# Altium footprint library 接插件.PCBLIB: 113 footprints (part 6 of 8)
Each footprint in its own frame and in the unit in brackets; x right, y up, seen from the top. Pads: shape width x height; smd on the part's side, far side on the other; paste and mask are expansions set on the pad; w line width, h text height; cw(c..) or ccw(c..) is an arc to the next point about the centre after c.
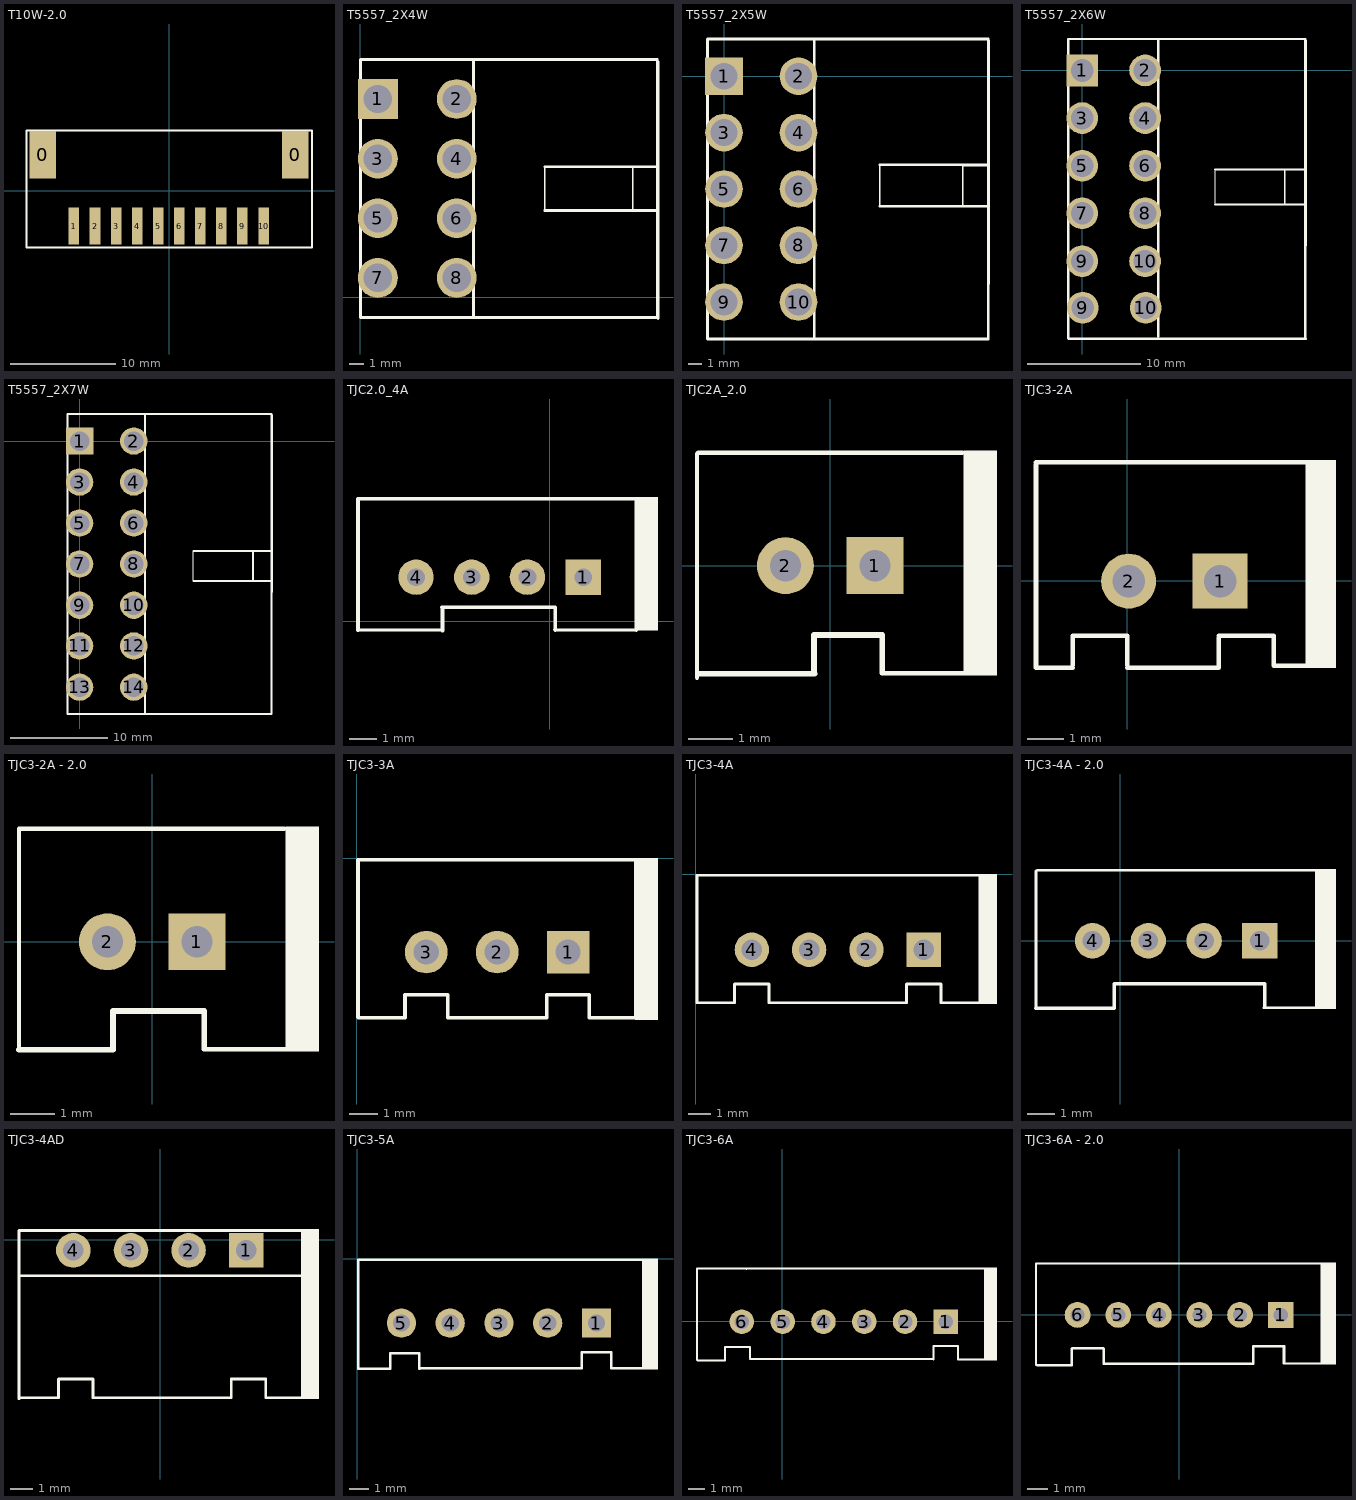
[diagram p5: the footprints below, top view; thin cyan lines are the x and y axes]

## T10W-2.0 [mm]
height 2.54
pads (12):
  rect 2.5x4.5 smd: 0(-11.957,3.375) 0(11.957,3.375)
  rect 1x3.5 smd: 1(-9.007,-3.375) 2(-7.007,-3.375) 3(-5.007,-3.375) 4(-3.025,-3.375) 5(-1.025,-3.375) 6(0.975,-3.375) 7(2.975,-3.369) 8(4.957,-3.369) 9(6.957,-3.369) 10(8.957,-3.369)
TopOverlay:
  lines w0.2: -13.507,-5.4 13.529,-5.4 13.529,5.7 -13.507,5.7 -13.507,-5.4

## T5557_2X4W [mm]
pads (8):
  rect 2.8x2.8 hole 2: 1(1.225,13.975)
  round 2.8 hole 2: 2(6.775,13.975) 3(1.225,9.775) 4(6.775,9.775) 5(1.225,5.575) 6(6.775,5.575) 7(1.225,1.375) 8(6.775,1.375)
TopOverlay:
  lines w0.1: 12.975,6.125 12.975,9.2 ; 20.875,6.125 19.175,6.125 19.175,9.175 20.95,9.175
  lines w0.2: 7.95,-1.35 7.95,16.7 ; 12.975,6.125 20.9,6.125 ; 12.975,9.2 20.95,9.2 ; 20.95,-1.475 20.95,16.625 ; 0,-1.4 20.9,-1.4 20.9,16.75 0,16.75 0,-1.4

## T5557_2X5W [mm]
pads (10):
  rect 2.8x2.8 hole 2: 1(0,0)
  round 2.8 hole 2: 2(5.55,0) 3(0,-4.2) 4(5.55,-4.2) 5(0,-8.4) 6(5.55,-8.4) 7(0,-12.6) 8(5.55,-12.6) 9(0,-16.825) 10(5.55,-16.825)
TopOverlay:
  lines w0.1: 11.6,-9.675 11.6,-6.6 ; 19.5,-9.7 17.8,-9.7 17.8,-6.65 19.575,-6.65 ; 19.5,-9.675 17.8,-9.675 17.8,-6.625 19.575,-6.625
  lines w0.2: -1.225,-19.575 19.675,-19.575 ; 6.725,-19.45 6.725,2.725 ; 11.6,-9.675 19.525,-9.675 ; 11.6,-6.6 19.575,-6.6 ; 19.725,-15.45 19.725,2.65 ; -1.225,-19.55 -1.225,2.775 19.675,2.775 19.675,-19.55 -1.225,-19.55

## T5557_2X6W [mm]
pads (12):
  rect 2.8x2.8 hole 2: 1(0,0)
  round 2.8 hole 2: 2(5.55,0) 3(0,-4.2) 4(5.55,-4.2) 5(0,-8.4) 6(5.55,-8.4) 7(0,-12.6) 8(5.55,-12.6) 9(0,-16.825) 9(0.05,-20.95) 10(5.55,-16.825) 10(5.6,-20.95)
TopOverlay:
  lines w0.1: 11.725,-11.825 11.725,-8.75 ; 19.575,-11.825 17.875,-11.825 17.875,-8.775 19.65,-8.775 ; 19.625,-11.825 17.925,-11.825 17.925,-8.775 19.7,-8.775
  lines w0.2: -1.175,-23.7 19.725,-23.7 ; -1.175,-23.675 19.725,-23.675 ; 6.725,-23.475 6.725,2.725 ; 11.725,-11.825 19.65,-11.825 ; 11.725,-8.75 19.7,-8.75 ; 19.725,-15.45 19.725,2.65 ; -1.225,-23.65 19.675,-23.65 19.675,2.775 -1.225,2.775 -1.225,-23.65

## T5557_2X7W [mm]
pads (14):
  rect 2.8x2.8 hole 2: 1(0,0)
  round 2.8 hole 2: 2(5.55,0) 3(0,-4.2) 4(5.55,-4.2) 5(0,-8.4) 6(5.55,-8.4) 7(0,-12.6) 8(5.55,-12.6) 9(0,-16.825) 10(5.55,-16.825) 11(0,-21) 12(5.55,-21) 13(0,-25.225) 14(5.55,-25.225)
TopOverlay:
  lines w0.1: 11.65,-14.35 11.65,-11.275 ; 19.45,-14.275 17.75,-14.275 17.75,-11.225 19.525,-11.225 ; 19.55,-14.35 17.85,-14.35 17.85,-11.3 19.625,-11.3
  lines w0.2: -1.225,-27.975 19.675,-27.975 ; 6.725,-27.85 6.725,2.725 ; 11.65,-14.35 19.575,-14.35 ; 11.65,-11.275 19.625,-11.275 ; 19.725,-15.45 19.725,2.65 ; -1.225,-27.95 19.675,-27.95 ; -1.225,-27.95 -1.225,2.775 19.675,2.775 19.675,-27.95 ; -1.225,-27.95 19.675,-27.95

## TJC2.0_4A [mm]
pads (4):
  rect 1.27x1.27 hole 0.635: 1(1.2,1.575)
  round 1.27 hole 0.635: 2(-0.8,1.575) 3(-2.8,1.575) 4(-4.8,1.575)
TopOverlay:
  rectangle: 3.075,-0.341 3.889,4.45
  lines w0.1: -6.875,-0.325 -3.85,-0.325 ; 0.175,-0.3 0.2,-0.325 3.1,-0.325
  lines w0.127: -6.884,-0.328 -6.884,4.4 3.125,4.4 ; -3.875,0.498 0.2,0.498 0.2,-0.328 ; -3.85,-0.353 -3.85,0.473 ; 3.116,-0.328 3.116,4.4

## TJC2A_2.0 [mm]
pads (2):
  rect 1.27x1.27 hole 0.7: 1(1,0)
  round 1.27 hole 0.7: 2(-1,0)
TopOverlay:
  rectangle: 2.972,-2.45 3.725,2.575
  lines w0.1: -2.975,-2.5 -2.975,2.5 ; -2.95,2.525 2.95,2.525 ; 1.15,-2.4 3,-2.4
  lines w0.127: -2.95,-2.412 -0.35,-2.412 ; -0.36,-2.373 -0.36,-1.547 1.164,-1.547 1.164,-2.373

## TJC3-2A [mil]
pads (2):
  rect 60x60 hole 35.43: 1(101.27,-0.45)
  round 60 hole 35.43: 2(1.27,-0.45)
TopOverlay:
  rectangle: 195.67,-95.5 228,132
  lines w5: -100,127.44 -100,-95 -60,-95 ; -100,129.47 196.94,129.47 196.94,-92.97 160,-92.97 ; -60,-92.52 -60,-60 0,-60 0,-92.52 ; 0,-95 100,-95 100,-62.48 ; 100,-60 160,-60 160,-92.52

## TJC3-2A - 2.0 [mm]
pads (2):
  rect 1.27x1.27 hole 0.7: 1(1,0)
  round 1.27 hole 0.7: 2(-1,0)
TopOverlay:
  rectangle: 2.972,-2.45 3.725,2.575
  lines w0.1: -2.975,-2.412 -2.975,2.525 2.95,2.525 ; 1.15,-2.4 3,-2.4
  lines w0.127: -2.975,-2.412 -0.875,-2.412 -0.875,-1.547 1.164,-1.547 1.164,-2.373

## TJC3-3A [mil]
pads (3):
  rect 60x60 hole 35.43: 1(298.27,-132.45)
  round 60 hole 35.43: 2(198.27,-132.45) 3(98.28,-132.45)
TopOverlay:
  rectangle: 392.67,-228 425,0
  lines w5: 2,-224.44 2,-2 ; 2.6,-224.97 68.28,-224.97 68.28,-192.45 128.28,-192.45 128.28,-224.97 268.27,-224.97 268.27,-192.45 328.27,-192.45 328.27,-224.97 393.94,-224.97 393.94,-2.52 2.6,-2.52

## TJC3-4A [mil]
pads (4):
  rect 60x60 hole 35.43: 1(398.27,-132)
  round 60 hole 35.43: 2(298.27,-132) 3(198.28,-132) 4(98.28,-132)
TopOverlay:
  rectangle: 493.94,-227 526,0.5
  lines w5: 493.94,-224.52 428.27,-224.52 428.27,-192 368.27,-192 368.27,-224.52 128.28,-224.52 128.28,-192 68.28,-192 68.28,-224.52 2.6,-224.52 2.6,-2.08 493.94,-2.08

## TJC3-4A - 2.0 [mm]
pads (4):
  rect 1.27x1.27 hole 0.7: 1(5,0)
  round 1.27 hole 0.7: 2(3,0) 3(1,0) 4(-1,0)
TopOverlay:
  rectangle: 6.972,-2.45 7.725,2.575
  lines w0.1: -3.025,-2.425 -3.025,2.5 ; -2.975,2.525 6.95,2.525 ; 5.15,-2.4 7,-2.4
  lines w0.127: -3.025,-2.412 -0.225,-2.412 -0.225,-1.547 5.164,-1.547 5.164,-2.373

## TJC3-4AD [mil]
pads (4):
  rect 60x60 hole 35.43: 1(149.26,-17.83)
  round 60 hole 35.43: 2(49.26,-17.83) 3(-50.74,-17.83) 4(-150.74,-17.83)
TopOverlay:
  rectangle: 244.09,-275.59 275.59,18.7
  lines w5: -245.08,-275.59 -245.08,16.73 ; -243.11,-62.01 248.23,-62.01 ; -243.11,16.73 248.23,16.73 ; -242.47,-273.73 -176.8,-273.73 -176.8,-241.21 -116.8,-241.21 -116.8,-273.73 123.2,-273.73 123.2,-241.21 183.2,-241.21 183.2,-273.73 248.87,-273.73

## TJC3-5A [mil]
pads (5):
  rect 60x60 hole 35.43: 1(490.67,-131.92)
  round 60 hole 35.43: 2(390.67,-131.92) 3(290.67,-131.92) 4(190.67,-131.92) 5(90.67,-131.92)
TopOverlay:
  rectangle: 586.34,-227 617,0.5
  lines w5: 128.67,-224.92 127.67,-225.92 127.67,-193.4 67.67,-193.4 67.67,-225.92 2,-225.92 2,-2.33 1.67,-2 95,-2 586.34,-2 586.34,-224.44 520.67,-224.44 520.67,-191.92 460.67,-191.92 460.67,-224.44 220.67,-224.44 129.15,-224.44

## TJC3-6A [mil]
pads (6):
  rect 60x60 hole 35.43: 1(400.67,-0.92)
  round 60 hole 35.43: 2(300.67,-0.92) 3(200.67,-0.92) 4(100.67,-0.92) 5(0.67,-0.92) 6(-99.33,-0.92)
TopOverlay:
  rectangle: 496.34,-96 526,131.5
  lines w5: -209.33,-94.92 -209.33,128.67 ; -209.33,129 5,129 496.34,129 496.34,-93.44 430.67,-93.44 430.67,-60.92 370.67,-60.92 370.67,-93.44 ; -208,-96 -141,-96 -141,-63.48 ; -140,-63 -80,-63 ; -88.33,129 -88,128.67 ; -79,-64 -79,-93 367.59,-93

## TJC3-6A - 2.0 [mm]
pads (6):
  rect 1.27x1.27 hole 0.7: 1(5,0)
  round 1.27 hole 0.7: 2(3,0) 3(1,0) 4(-1,0) 5(-3,0) 6(-5,0)
TopOverlay:
  rectangle: 6.972,-2.45 7.725,2.575
  lines w0.1: -7.05,-2.475 -7.05,2.525 6.95,2.525 ; 5.15,-2.4 7,-2.4
  lines w0.127: -6.983,-2.488 -5.281,-2.488 -5.281,-1.662 ; -5.256,-1.65 -3.732,-1.65 ; -3.707,-1.676 -3.707,-2.412 3.65,-2.412 ; 3.64,-2.373 3.64,-1.547 5.164,-1.547 5.164,-2.373